# EAGLE library part AD712 (library analog-devices_custom)
Dual Precision, Low Cost, High Speed BiFET Op Amp Source: http://www.analog.com/static/imported-files/data_sheets/AD712.pdf
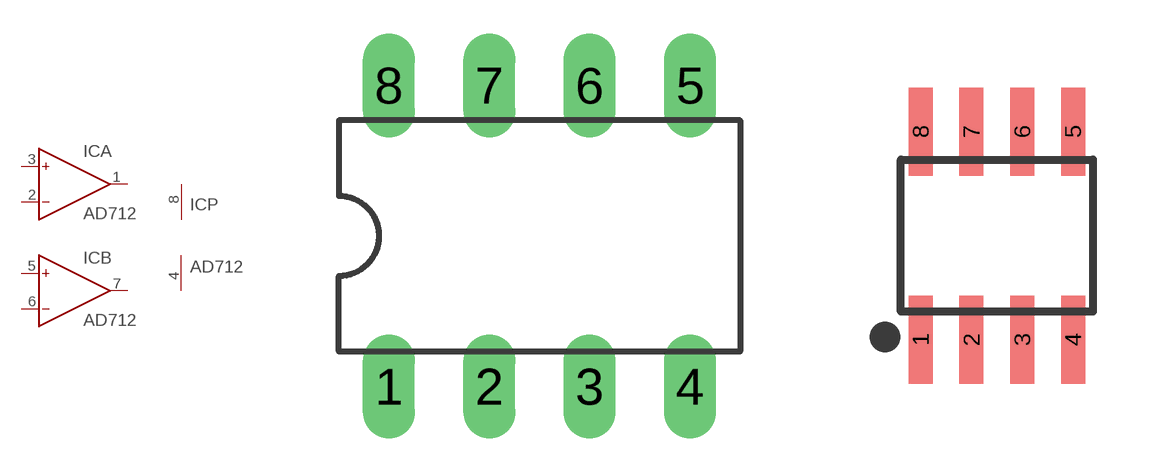
[diagram p15: symbol with the pads of DIL08; footprints DIL08, SO8]

Designator prefix IC; gates A=OP B=OP P=PWR+-

## AD712N (MF: ALTERA CORPORATION; MPN: AD712JNZ; OC_FARNELL: 9604898; OC_NEWARK: 59K4554)  [DIL08]
1  A:OUT  out
2  A:IN-  in
3  A:IN+  in
4  P:V-  pwr
5  B:IN+  in
6  B:IN-  in
7  B:OUT  out
8  P:V+  pwr

## AD712R (MF: ALTERA CORPORATION; MPN: AD712KRZ; OC_FARNELL: 1263975; OC_NEWARK: 59K4556)  [SO8]
Pads as for DIL08

## AD712Q (MF: ALTERA CORPORATION; MPN: AD712AQ; OC_FARNELL: 9604898; OC_NEWARK: 05F7274)  [DIL08]
Pads as for DIL08

## Footprint DIL08 (pad centres in mm)
Dual In Line Package
drill 0.813 long: 1 -3.81,-3.81; 2 -1.27,-3.81; 3 1.27,-3.81; 4 3.81,-3.81; 5 3.81,3.81; 6 1.27,3.81; 7 -1.27,3.81; 8 -3.81,3.81

## Footprint SO8 (pad centres in mm)
SMALL OUTLINE INTEGRATED CIRCUIT SOP-8L Source: http://www.diodes.com/datasheets/ds31262.pdf
smd 0.6 x 2.2: 1 -1.905,-2.6; 2 -0.635,-2.6; 3 0.635,-2.6; 4 1.905,-2.6; 5 1.905,2.6; 6 0.635,2.6; 7 -0.635,2.6; 8 -1.905,2.6